# EAGLE library part TFBS4650 (library ic-Vishay)
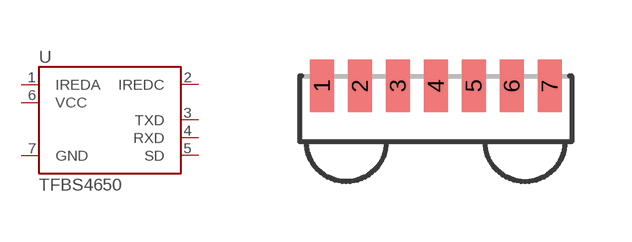
[diagram p2: symbol with the pads of TFBS4650; footprint TFBS4650]

Designator prefix U

## TFBS4650  [TFBS4650]
1  IREDA
2  IREDC
3  TXD
4  RXD
5  SD
6  VCC
7  GND

## Footprint TFBS4650 (pad centres in mm)
smd 0.6 x 1.3: 1 -2.85,0.65; 2 -1.9,0.65; 3 -0.95,0.65; 4 0,0.65; 5 0.95,0.65; 6 1.9,0.65; 7 2.85,0.65